# EAGLE library part AP6502 (library logic-supply)
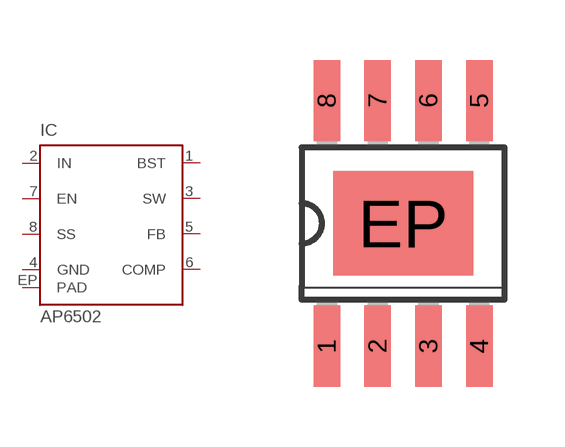
[diagram p27: symbol with the pads of SO08EP; footprint SO08EP]

Designator prefix IC

## AP6502SP  [SO08EP]
1  BST
2  IN
3  SW
4  GND
5  FB
6  COMP
7  EN
8  SS
EP  PAD

## Footprint SO08EP (pad centres in mm)
smd 0.66 x 2.032: 1 -1.905,-3.073; 2 -0.635,-3.073; 3 0.635,-3.073; 4 1.905,-3.073; 5 1.905,3.073; 6 0.635,3.073; 7 -0.635,3.073; 8 -1.905,3.073
smd 3.502 x 2.613: EP 0,0